# EAGLE library part MOLEX_53467_0809 (library cvogel)
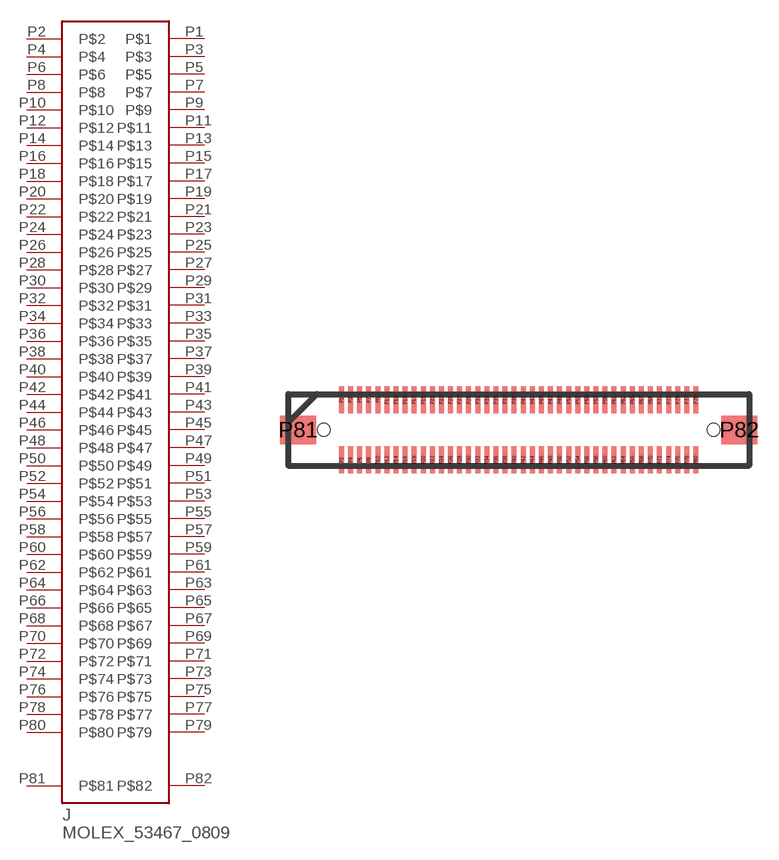
[diagram p1: symbol with the pads of MOLEX_53467_0809; footprint MOLEX_53467_0809]

Designator prefix J

## MOLEX_53467_0809  [MOLEX_53467_0809]
P1  P$1
P2  P$2
P3  P$3
P4  P$4
P5  P$5
P6  P$6
P7  P$7
P8  P$8
P9  P$9
P10  P$10
P11  P$11
P12  P$12
P13  P$13
P14  P$14
P15  P$15
P16  P$16
P17  P$17
P18  P$18
P19  P$19
P20  P$20
P21  P$21
P22  P$22
P23  P$23
P24  P$24
P25  P$25
P26  P$26
P27  P$27
P28  P$28
P29  P$29
P30  P$30
P31  P$31
P32  P$32
P33  P$33
P34  P$34
P35  P$35
P36  P$36
P37  P$37
P38  P$38
P39  P$39
P40  P$40
P41  P$41
P42  P$42
P43  P$43
P44  P$44
P45  P$45
P46  P$46
P47  P$47
P48  P$48
P49  P$49
P50  P$50
P51  P$51
P52  P$52
P53  P$53
P54  P$54
P55  P$55
P56  P$56
P57  P$57
P58  P$58
P59  P$59
P60  P$60
P61  P$61
P62  P$62
P63  P$63
P64  P$64
P65  P$65
P66  P$66
P67  P$67
P68  P$68
P69  P$69
P70  P$70
P71  P$71
P72  P$72
P73  P$73
P74  P$74
P75  P$75
P76  P$76
P77  P$77
P78  P$78
P79  P$79
P80  P$80
P81  P$81
P82  P$82

## Footprint MOLEX_53467_0809 (pad centres in mm)
smd 0.35 x 1.87: P1 -12.402,2.1; P2 -12.402,-2.1; P3 -11.766,2.1; P4 -11.766,-2.1; P5 -11.13,2.1; P6 -11.13,-2.1; P7 -10.494,2.1; P8 -10.494,-2.1; P9 -9.858,2.1; P10 -9.858,-2.1; P11 -9.222,2.1; P12 -9.222,-2.1; P13 -8.586,2.1; P14 -8.586,-2.1; P15 -7.95,2.1; P16 -7.95,-2.1; P17 -7.314,2.1; P18 -7.314,-2.1; P19 -6.678,2.1; P20 -6.678,-2.1; P21 -6.042,2.1; P22 -6.042,-2.1; P23 -5.406,2.1; P24 -5.406,-2.1; P25 -4.77,2.1; P26 -4.77,-2.1; P27 -4.134,2.1; P28 -4.134,-2.1; P29 -3.498,2.1; P30 -3.498,-2.1; P31 -2.862,2.1; P32 -2.862,-2.1; P33 -2.226,2.1; P34 -2.226,-2.1; P35 -1.59,2.1; P36 -1.59,-2.1; P37 -0.954,2.1; P38 -0.954,-2.1; P39 -0.318,2.1; P40 -0.318,-2.1; P41 0.318,2.1; P42 0.318,-2.1; P43 0.954,2.1; P44 0.954,-2.1; P45 1.59,2.1; P46 1.59,-2.1; P47 2.226,2.1; P48 2.226,-2.1; P49 2.862,2.1; P50 2.862,-2.1; P51 3.498,2.1; P52 3.498,-2.1; P53 4.134,2.1; P54 4.134,-2.1; P55 4.77,2.1; P56 4.77,-2.1; P57 5.406,2.1; P58 5.406,-2.1; P59 6.042,2.1; P60 6.042,-2.1; P61 6.678,2.1; P62 6.678,-2.1; P63 7.314,2.1; P64 7.314,-2.1; P65 7.95,2.1; P66 7.95,-2.1; P67 8.586,2.1; P68 8.586,-2.1; P69 9.222,2.1; P70 9.222,-2.1; P71 9.858,2.1; P72 9.858,-2.1; P73 10.494,2.1; P74 10.494,-2.1; P75 11.13,2.1; P76 11.13,-2.1; P77 11.766,2.1; P78 11.766,-2.1; P79 12.402,2.1; P80 12.402,-2.1
smd 2.5 x 2: P81 -15.435,0; P82 15.435,0
hole 0.9 at -13.635,0
hole 0.9 at 13.635,0